# Altium footprint library PcbLib1.PcbLib: 6 footprints
Each footprint in its own frame and in the unit in brackets; x right, y up, seen from the top. Pads: shape width x height; smd on the part's side, far side on the other; paste and mask are expansions set on the pad; w line width, h text height; cw(c..) or ccw(c..) is an arc to the next point about the centre after c.
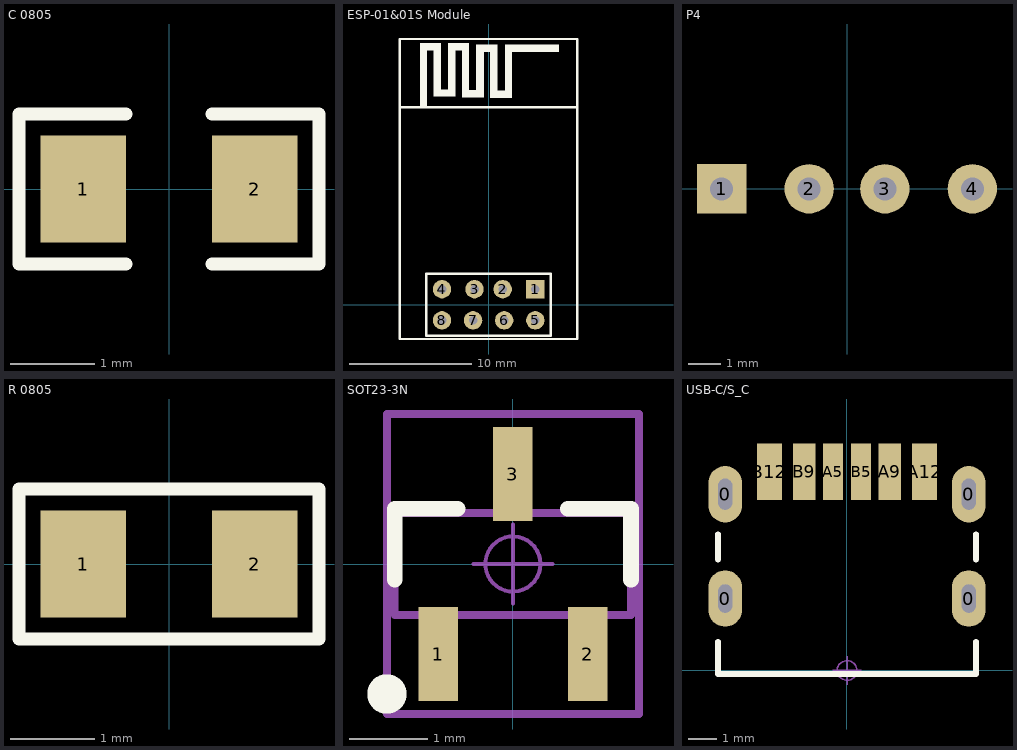
[diagram p0: the footprints below, top view; thin cyan lines are the x and y axes]

## C 0805 [mil] "贴片带丝印"
height 43.31
pads (2):
  rect 40x50 smd: 1(-40,0) 2(40,0)
Top Overlay:
  lines w6: -20,-35 -70,-35 -70,35 -20,35 ; 20,-35 70,-35 70,35 20,35
3D body "C 0805.STEP": height 20.08, standoff -0.39, extent -39.37,-24.01 39.37,24.02

## ESP-01&01S Module [mm]
pads (8):
  rect 1.5x1.5 hole 0.7: 1(3.81,1.27)
  round 1.5 hole 0.7: 2(1.15,1.27) 3(-1.15,1.27) 4(-3.81,1.27) 5(3.81,-1.27) 6(1.27,-1.27) 7(-1.27,-1.27) 8(-3.81,-1.27)
Top Overlay:
  rectangle: -5.599,16.129 -5.015,21.361
  rectangle: -5.015,20.777 -3.897,21.361
  rectangle: -4.507,17.018 -3.897,20.777
  rectangle: -3.897,17.018 -2.703,17.602
  rectangle: -3.313,17.602 -2.703,21.361
  rectangle: -2.703,20.777 -1.586,21.361
  rectangle: -2.17,16.942 -1.586,20.777
  rectangle: -1.586,16.942 -0.392,17.526
  rectangle: -1.027,17.526 -0.392,21.26
  rectangle: -0.392,20.65 0.726,21.26
  rectangle: 0.116,16.891 0.726,20.65
  rectangle: 0.726,16.891 1.919,17.501
  rectangle: 1.335,17.501 1.919,21.26
  rectangle: 1.919,20.65 5.755,21.26
  lines w0.2: -7.25,16.129 7.25,16.129 ; -7.25,-2.794 7.25,-2.794 7.25,21.706 -7.25,21.706 -7.25,-2.794 ; -5.08,-2.54 -5.08,2.54 5.08,2.54 5.08,-2.54 -5.08,-2.54

## P4 [mm]
pads (4):
  rect 1.5x1.5 hole 0.7: 1(-3.81,0)
  round 1.5 hole 0.7: 2(-1.15,0) 3(1.15,0) 4(3.81,0)
Top Overlay:

## R 0805 [mil] "贴片带丝印"
height 43.31
pads (2):
  rect 40x50 smd: 1(-40,0) 2(40,0)
Top Overlay:
  lines w6: -70,-35 -70,35 70,35 70,-35 -70,-35
3D body "R0805.STEP": height 21.65, standoff 0, extent -39.37,-24.8 39.37,24.81

## SOT23-3N [mm] "3x1.3x1mm(长宽高)"
height 1.1
pads (3):
  rect 0.5x1.2 smd: 1(-0.95,-1.143) 2(0.95,-1.143) 3(0,1.143)
Top Overlay:
  circle w0.25: c-1.6,-1.651 r0.125
  lines w0.2: -1.501,-0.2 -1.501,0.7 -0.701,0.7 ; 0.699,0.7 1.499,0.7 1.499,-0.2
Mechanical 13:
  lines w0.1: -1.5,-0.65 -1.5,0.65 1.5,0.65 1.5,-0.65 -1.5,-0.65
Mechanical 15:
  circle w0.05: c0,0 r0.35
  lines w0.05: -0.5,0 0.5,0 ; 0,-0.5 0,0.5
  lines w0.1: -1.6,-1.905 -1.6,1.905 1.6,1.905 1.6,-1.905 -1.6,-1.905
3D body "SOT23-3.STEP": height 1.05, standoff 0, extent -1.5,-1.2 1.5,1.2

## USB-C/S_C [mm] "Type-C 6P母座"
pads (10):
  oval 1.2x2 hole 0.5 slot 1 at 90 deg: 0(-4.32,2.55) 0(4.32,2.55)
  oval 1.2x2 hole 0.5 slot 1.1 at 90 deg: 0(-4.32,6.25) 0(4.32,6.25)
  rect 0.7x2 smd: A5(-0.5,7.05) B5(0.5,7.05)
  rect 0.8x2 smd: A9(1.52,7.05) B9(-1.52,7.05)
  rect 0.9x2 smd: A12(2.75,7.05) B12(-2.75,7.05)
Top Overlay:
  lines w0.203: -4.572,1.016 -4.572,-0.127 4.572,-0.127 4.572,1.016 ; -4.572,3.937 -4.572,4.826 ; 4.572,3.937 4.572,4.826
Mechanical 15:
  circle w0.05: c0,0 r0.35
  lines w0.05: -0.5,0 0.5,0 ; 0,-0.5 0,0.5
3D body "type-C6P母座.S": height 3.16, standoff -1.1, extent -4.475,0 4.475,7.05